# Altium footprint library MOTHERBOARD.PcbLib: 64 footprints (part 2 of 4)
Each footprint in its own frame and in the unit in brackets; x right, y up, seen from the top. Pads: shape width x height; smd on the part's side, far side on the other; paste and mask are expansions set on the pad; w line width, h text height; cw(c..) or ccw(c..) is an arc to the next point about the centre after c.
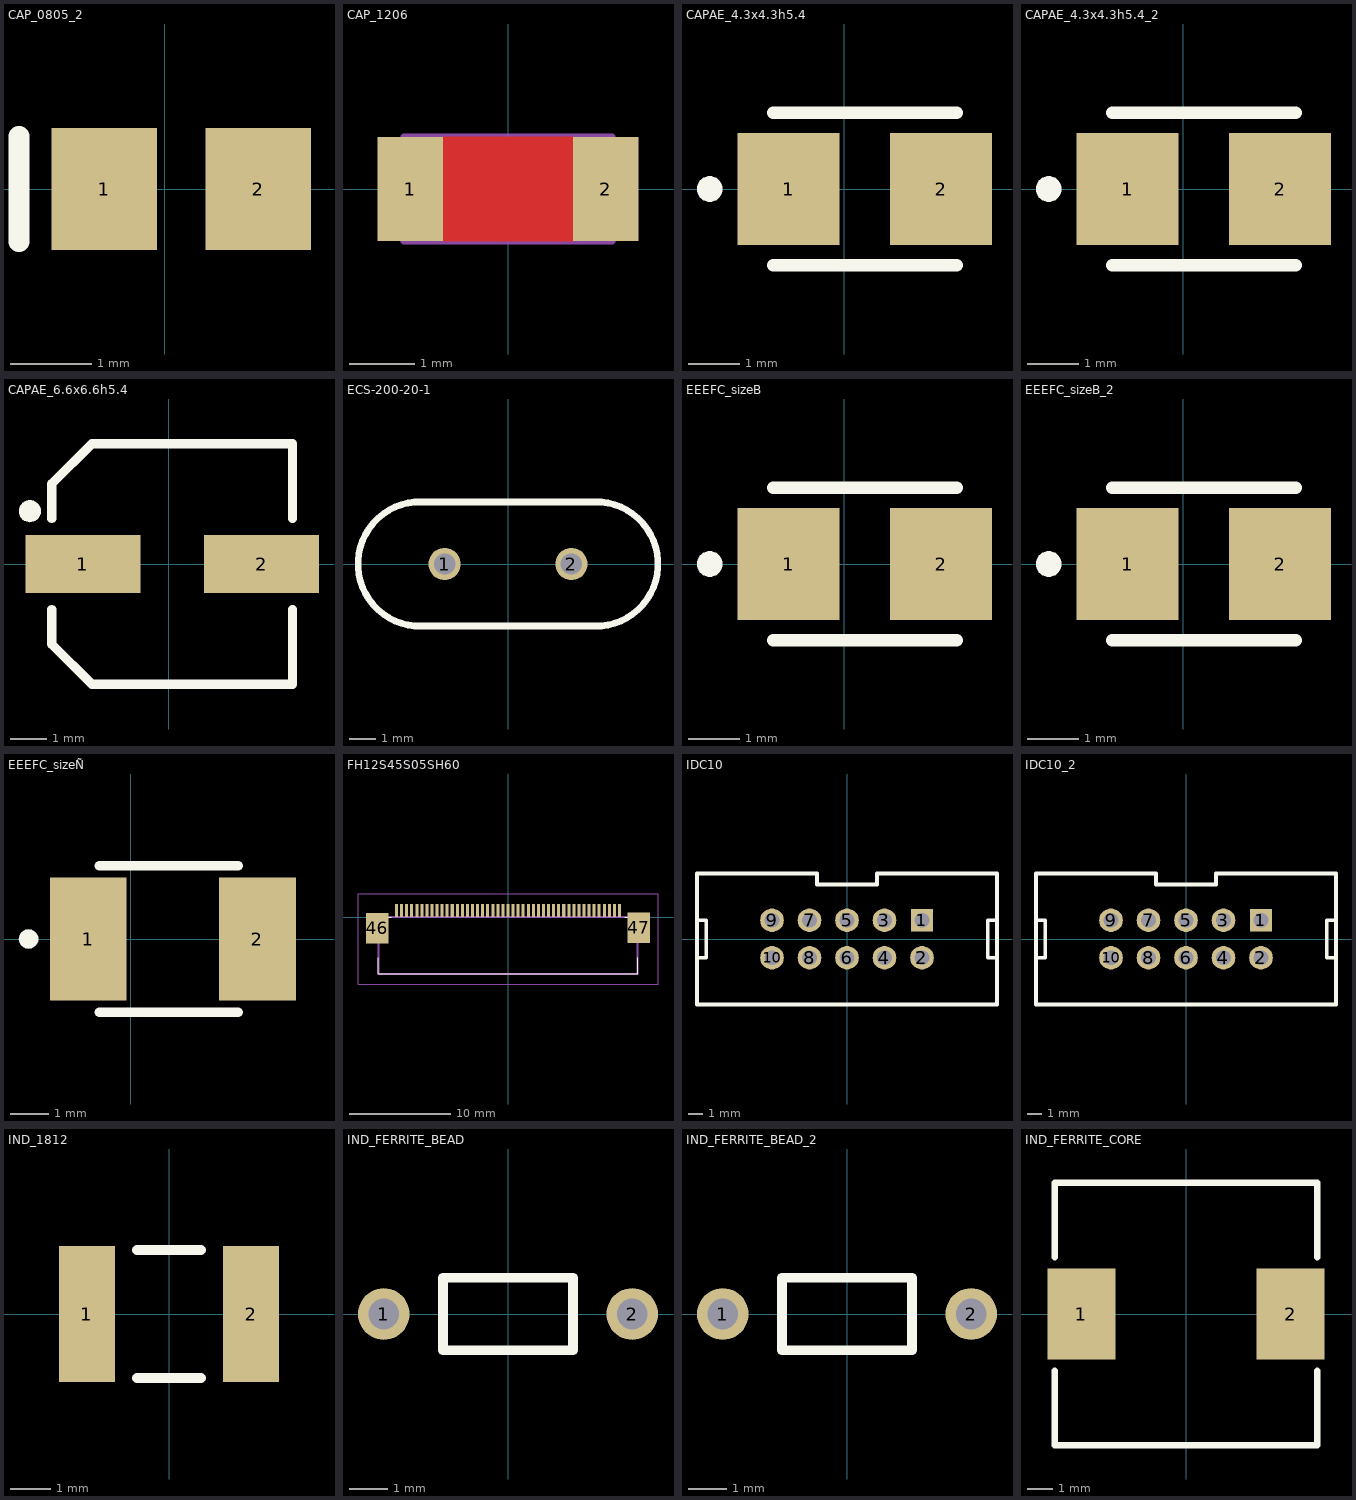
[diagram p1: the footprints below, top view; thin cyan lines are the x and y axes]

## CAP_0805_2 [mm]
pads (2):
  rect 1.3x1.5 smd: 1(-0.75,0) 2(1.15,0)
Top Overlay:
  lines w0.254: -1.8,-0.65 -1.8,0.65
3D body "SW3dPS-0805 SMD Capacitor.STEP": height 0.78, standoff 0, extent -0.8,-0.625 1.2,0.625

## CAP_1206 [mm] "Surface-Mount Multilayer Chip Capacitor, Body 3.2 x 1.6 mm (L x W)"
height 1.4
pads (2):
  rect 1x1.6 smd: 1(-1.5,0) 2(1.5,0)
Top Layer:
  pour cut-out: -1,0.8 1,0.8 1,-0.8 -1,-0.8
Mechanical 13:
  lines w0.1: -1.6,-0.8 1.6,-0.8 1.6,0.8 -1.6,0.8 -1.6,-0.8
3D body "1206.step": height 1, standoff 0, extent -1.6,-0.8 1.6,0.8

## CAPAE_4.3x4.3h5.4 [mm]
pads (2):
  rect 2x2.2 smd: 1(-1.1,0) 2(1.9,0)
Top Overlay:
  region: -2.4,0 -2.404,0.043 -2.415,0.085 -2.434,0.125 -2.458,0.161 -2.489,0.191 -2.525,0.216 -2.565,0.235 -2.607,0.246 -2.65,0.25 -2.693,0.246 -2.736,0.235 -2.775,0.216 -2.811,0.191 -2.842,0.161 -2.866,0.125 -2.885,0.085 -2.896,0.043 -2.9,0 -2.896,-0.043 -2.885,-0.085 -2.866,-0.125 -2.842,-0.161 -2.811,-0.191 -2.775,-0.216 -2.736,-0.235 -2.693,-0.246 -2.65,-0.25 -2.607,-0.246 -2.565,-0.235 -2.525,-0.216 -2.489,-0.191 -2.458,-0.161 -2.434,-0.125 -2.415,-0.085 -2.404,-0.043
  lines w0.254: -1.4,-1.5 2.2,-1.5 ; -1.4,1.5 2.2,1.5
3D body "TAJB_AVX.step": height 2.16, standoff 0, extent -1.454,-1.499 2.254,1.499

## CAPAE_4.3x4.3h5.4_2 [mm]
pads (2):
  rect 2x2.2 smd: 1(-1.1,0) 2(1.9,0)
Top Overlay:
  region: -2.4,0 -2.404,0.043 -2.415,0.085 -2.434,0.125 -2.458,0.161 -2.489,0.191 -2.525,0.216 -2.565,0.235 -2.607,0.246 -2.65,0.25 -2.693,0.246 -2.736,0.235 -2.775,0.216 -2.811,0.191 -2.842,0.161 -2.866,0.125 -2.885,0.085 -2.896,0.043 -2.9,0 -2.896,-0.043 -2.885,-0.085 -2.866,-0.125 -2.842,-0.161 -2.811,-0.191 -2.775,-0.216 -2.736,-0.235 -2.693,-0.246 -2.65,-0.25 -2.607,-0.246 -2.565,-0.235 -2.525,-0.216 -2.489,-0.191 -2.458,-0.161 -2.434,-0.125 -2.415,-0.085 -2.404,-0.043
  lines w0.254: -1.4,-1.5 2.2,-1.5 ; -1.4,1.5 2.2,1.5

## CAPAE_6.6x6.6h5.4 [mm]
pads (2):
  rect 3.15x1.6 smd: 1(-2.362,0) 2(2.538,0)
Top Overlay:
  region: -3.513,1.45 -3.518,1.502 -3.531,1.552 -3.553,1.6 -3.583,1.643 -3.62,1.679 -3.663,1.709 -3.71,1.732 -3.761,1.745 -3.813,1.75 -3.865,1.745 -3.915,1.732 -3.963,1.709 -4.005,1.679 -4.042,1.643 -4.072,1.6 -4.094,1.552 -4.108,1.502 -4.112,1.45 -4.108,1.398 -4.094,1.347 -4.072,1.3 -4.042,1.257 -4.005,1.22 -3.963,1.19 -3.915,1.168 -3.865,1.154 -3.813,1.15 -3.761,1.154 -3.71,1.168 -3.663,1.19 -3.62,1.22 -3.583,1.257 -3.553,1.3 -3.531,1.347 -3.518,1.398
  lines w0.254: -3.212,-1.25 -3.212,-2.2 -2.112,-3.3 3.387,-3.3 3.388,-1.25 ; -3.212,1.25 -3.212,2.2 -2.112,3.3 3.387,3.3 3.388,1.25

## ECS-200-20-1 [mil]
pads (2):
  round 48 hole 32: 1(-95,0) 2(95,0)
Top Overlay:
  lines w10: -139.67,-92.87 139.67,-92.87 ; -139.67,92.87 139.67,92.87 ; -139.57,-92.88 cw(c-131.45,0) -139.57,92.88 ; 139.57,-92.88 ccw(c131.45,0) 139.57,92.88

## EEEFC_sizeB [mm]
pads (2):
  rect 2x2.2 smd: 1(-1.1,0) 2(1.9,0)
Top Overlay:
  region: -2.4,0 -2.404,0.043 -2.415,0.085 -2.434,0.125 -2.458,0.161 -2.489,0.191 -2.525,0.216 -2.565,0.235 -2.607,0.246 -2.65,0.25 -2.693,0.246 -2.736,0.235 -2.775,0.216 -2.811,0.191 -2.842,0.161 -2.866,0.125 -2.885,0.085 -2.896,0.043 -2.9,0 -2.896,-0.043 -2.885,-0.085 -2.866,-0.125 -2.842,-0.161 -2.811,-0.191 -2.775,-0.216 -2.736,-0.235 -2.693,-0.246 -2.65,-0.25 -2.607,-0.246 -2.565,-0.235 -2.525,-0.216 -2.489,-0.191 -2.458,-0.161 -2.434,-0.125 -2.415,-0.085 -2.404,-0.043
  lines w0.254: -1.4,-1.5 2.2,-1.5 ; -1.4,1.5 2.2,1.5

## EEEFC_sizeB_2 [mm]
pads (2):
  rect 2x2.2 smd: 1(-1.1,0) 2(1.9,0)
Top Overlay:
  region: -2.4,0 -2.404,0.043 -2.415,0.085 -2.434,0.125 -2.458,0.161 -2.489,0.191 -2.525,0.216 -2.565,0.235 -2.607,0.246 -2.65,0.25 -2.693,0.246 -2.736,0.235 -2.775,0.216 -2.811,0.191 -2.842,0.161 -2.866,0.125 -2.885,0.085 -2.896,0.043 -2.9,0 -2.896,-0.043 -2.885,-0.085 -2.866,-0.125 -2.842,-0.161 -2.811,-0.191 -2.775,-0.216 -2.736,-0.235 -2.693,-0.246 -2.65,-0.25 -2.607,-0.246 -2.565,-0.235 -2.525,-0.216 -2.489,-0.191 -2.458,-0.161 -2.434,-0.125 -2.415,-0.085 -2.404,-0.043
  lines w0.254: -1.4,-1.5 2.2,-1.5 ; -1.4,1.5 2.2,1.5

## EEEFC_sizeÑ [mm]
pads (2):
  rect 2x3.2 smd: 1(-1.1,0) 2(3.302,0)
Top Overlay:
  region: -2.4,0 -2.404,0.043 -2.415,0.085 -2.434,0.125 -2.458,0.161 -2.489,0.191 -2.525,0.216 -2.565,0.235 -2.607,0.246 -2.65,0.25 -2.693,0.246 -2.736,0.235 -2.775,0.216 -2.811,0.191 -2.842,0.161 -2.866,0.125 -2.885,0.085 -2.896,0.043 -2.9,0 -2.896,-0.043 -2.885,-0.085 -2.866,-0.125 -2.842,-0.161 -2.811,-0.191 -2.775,-0.216 -2.736,-0.235 -2.693,-0.246 -2.65,-0.25 -2.607,-0.246 -2.565,-0.235 -2.525,-0.216 -2.489,-0.191 -2.458,-0.161 -2.434,-0.125 -2.415,-0.085 -2.404,-0.043
  lines w0.254: -0.806,-1.905 2.794,-1.905 ; -0.806,1.905 2.794,1.905

## FH12S45S05SH60 [mm]
pads (47):
  rect 0.3x1.3 smd: 1(11,0.65) 2(10.5,0.65) 3(10,0.65) 4(9.5,0.65) 5(9,0.65) 6(8.5,0.65) 7(8,0.65) 8(7.5,0.65) 9(7,0.65) 10(6.5,0.65) 11(6,0.65) 12(5.5,0.65) 13(5,0.65) 14(4.5,0.65) 15(4,0.65) 16(3.5,0.65) 17(3,0.65) 18(2.5,0.65) 19(2,0.65) 20(1.5,0.65) 21(1,0.65) 22(0.5,0.65) 23(0,0.65) 24(-0.5,0.65) 25(-1,0.65) 26(-1.5,0.65) 27(-2,0.65) 28(-2.5,0.65) 29(-3,0.65) 30(-3.5,0.65) 31(-4,0.65) 32(-4.5,0.65) 33(-5,0.65) 34(-5.5,0.65) 35(-6,0.65) 36(-6.5,0.65) 37(-7,0.65) 38(-7.5,0.65) 39(-8,0.65) 40(-8.5,0.65) 41(-9,0.65) 42(-9.5,0.65) 43(-10,0.65) 44(-10.5,0.65) 45(-11,0.65)
  rect 2.2x3 smd: 46(-12.9,-1.1) 47(12.9,-1.04)
Top Overlay:
  lines w0.1: -12.8,-4 -12.8,-5.6 12.8,-5.6 12.8,-4 ; -12.8,-1 -12.8,0 -11.5,0 ; 11.5,0 12.8,0 12.8,-1
Mechanical 13:
  lines w0.2: -12.8,-5.6 -12.8,0 12.8,0 12.8,-5.6 -12.8,-5.6
Mechanical 15:
  lines w0.1: -14.8,-6.6 -14.8,2.3 14.8,2.3 14.8,-6.6 -14.8,-6.6
3D body "FH12S-45S-0.5SH_55_.stp": height 2.1, standoff 0, extent -13.62,-5.6 13.62,1.27

## IDC10 [mm]
pads (10):
  rect 1.5x1.5 hole 1: 1(5.08,1.27)
  round 1.6 hole 1: 2(5.08,-1.27) 3(2.54,1.27) 4(2.54,-1.27) 5(0,1.27) 6(0,-1.27) 7(-2.54,1.27) 8(-2.54,-1.27) 9(-5.08,1.27) 10(-5.08,-1.27)
Top Overlay:
  lines w0.254: -10.16,-1.27 -9.526,-1.27 -9.526,1.27 -10.16,1.27 ; 10.16,-1.27 9.526,-1.27 9.526,1.27 10.16,1.27 ; -10.16,-4.445 -10.16,4.445 -2.032,4.445 -2.032,3.683 2.032,3.683 2.032,4.445 10.16,4.445 10.16,-4.445 -10.16,-4.445
3D body: height 8.9, standoff -2.5, extent -10.16,-4.6 10.16,4.6

## IDC10_2 [mm]
pads (10):
  rect 1.5x1.5 hole 1: 1(5.08,1.27)
  round 1.6 hole 1: 2(5.08,-1.27) 3(2.54,1.27) 4(2.54,-1.27) 5(0,1.27) 6(0,-1.27) 7(-2.54,1.27) 8(-2.54,-1.27) 9(-5.08,1.27) 10(-5.08,-1.27)
Top Overlay:
  lines w0.254: -10.16,-1.27 -9.526,-1.27 -9.526,1.27 -10.16,1.27 ; 10.16,-1.27 9.526,-1.27 9.526,1.27 10.16,1.27 ; -10.16,-4.445 10.16,-4.445 10.16,4.445 2.032,4.445 2.032,3.683 -2.032,3.683 -2.032,4.445 -10.16,4.445 -10.16,-4.445

## IND_1812 [mm]
pads (2):
  rect 1.4x3.4 smd: 1(-2.05,0) 2(2.05,0)
Top Overlay:
  lines w0.254: -0.8,-1.6 0.8,-1.6 ; -0.8,1.6 0.8,1.6

## IND_FERRITE_BEAD [mm]
pads (2):
  round 1.35 hole 0.8: 1(-3.25,0) 2(3.25,0)
Top Overlay:
  lines w0.254: -1.703,-0.95 -1.703,0.95 1.703,0.95 1.703,-0.95 -1.703,-0.95

## IND_FERRITE_BEAD_2 [mm]
pads (2):
  round 1.35 hole 0.8: 1(-3.25,0) 2(3.25,0)
Top Overlay:
  lines w0.254: -1.703,-0.95 -1.703,0.95 1.703,0.95 1.703,-0.95 -1.703,-0.95

## IND_FERRITE_CORE [mm]
pads (2):
  rect 2.7x3.6 smd: 1(-4.15,0) 2(4.15,0)
Top Overlay:
  lines w0.254: -5.2,-2.25 -5.2,-5.2 5.2,-5.2 5.2,-2.25 ; -5.2,2.25 -5.2,5.2 5.2,5.2 5.2,2.25